# Altium integrated library Linear Technology Power Management Switching Regulator LTC1174-LTC3901.IntLib: 2647 symbols (part 128 of 364)
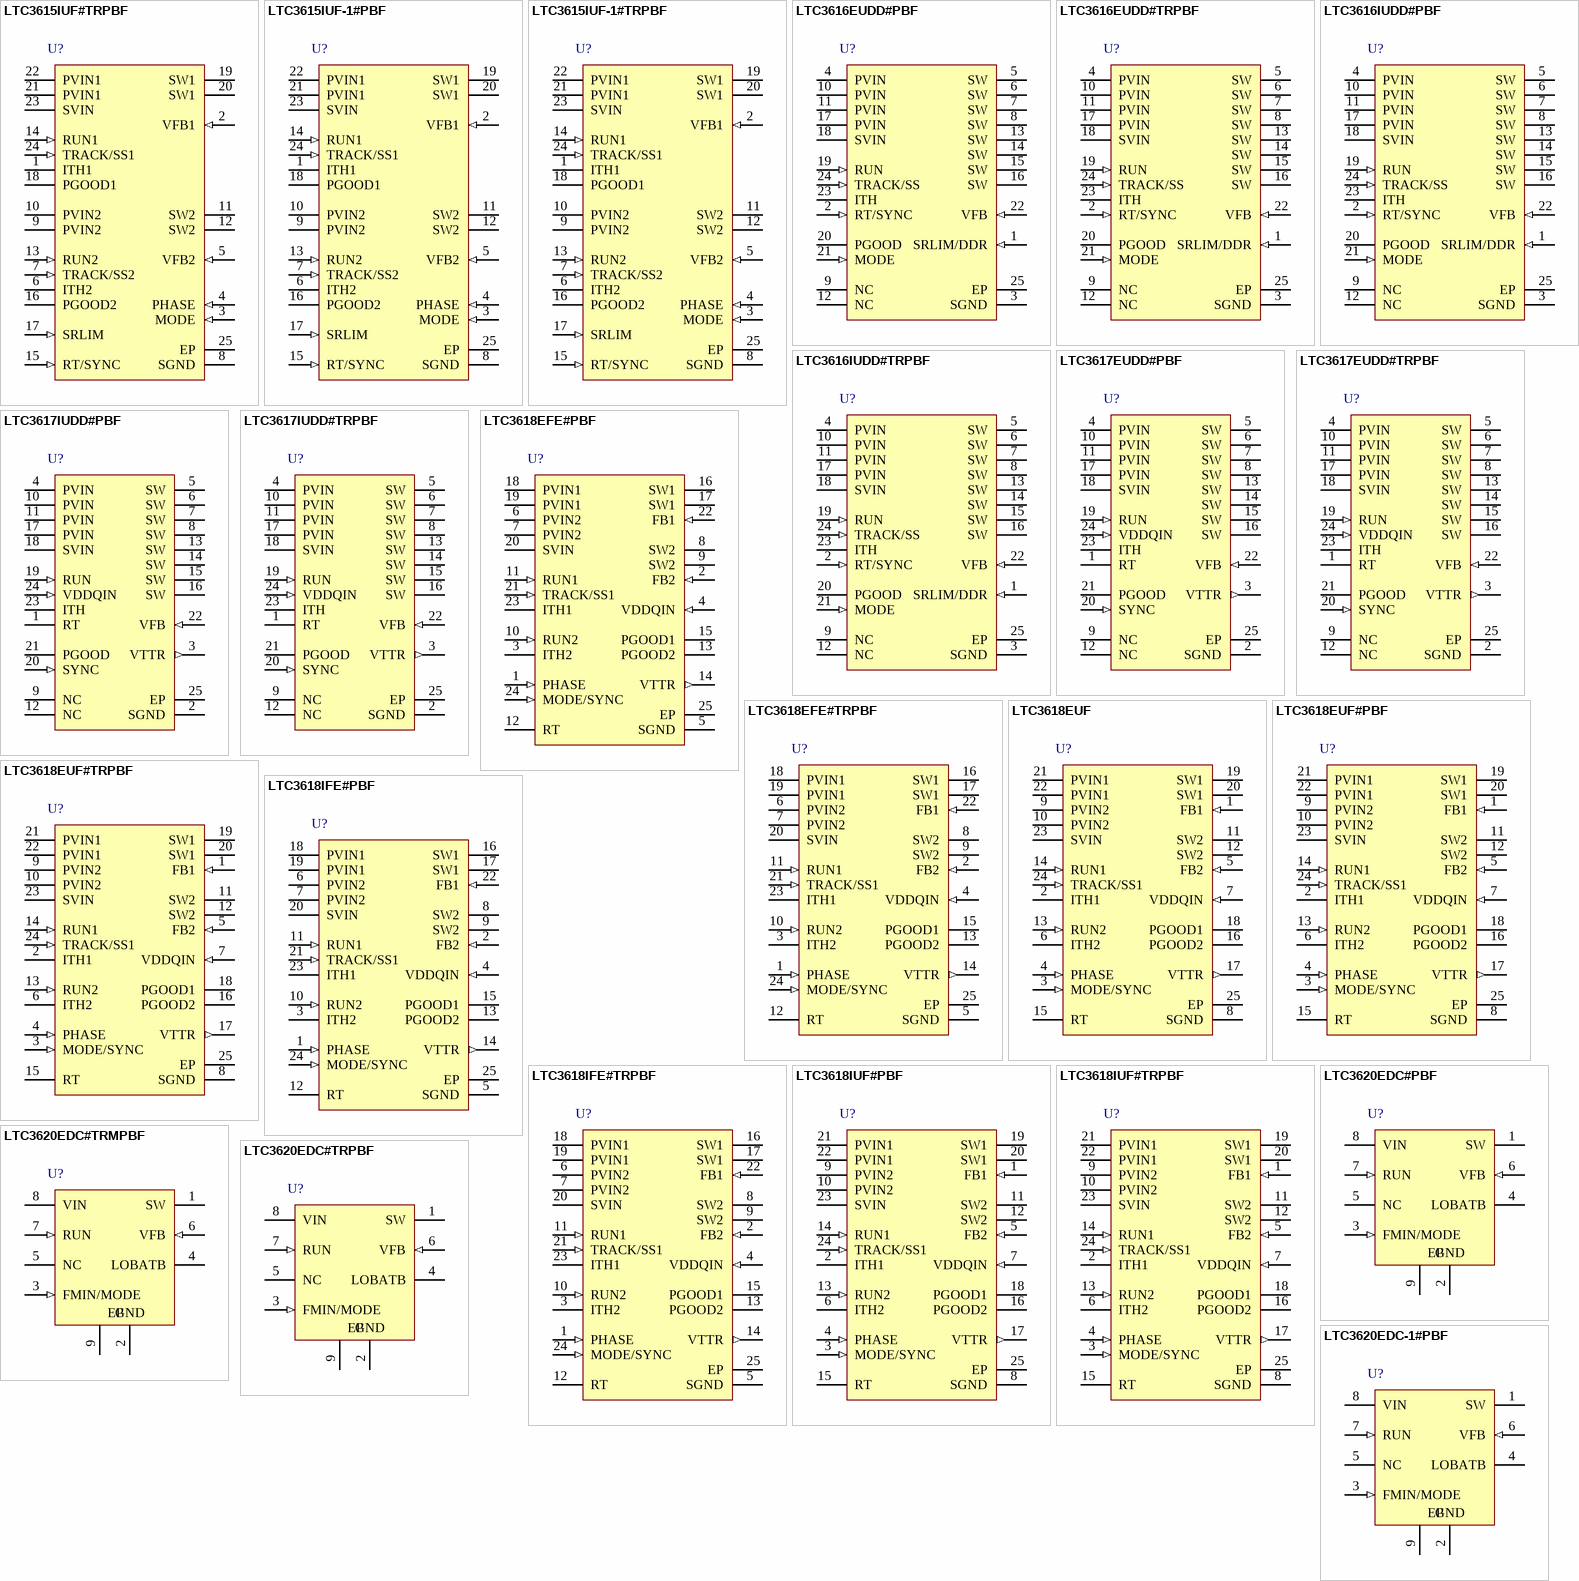
[diagram p280: symbols LTC3615IUF#TRPBF to LTC3620EDC-1#PBF]

## LTC3618EUF
designator U?
Dual 4 MHz, +/-3 A Synchronous Buck Converter for DDR Termination, 24-pin QFN (UF-24), -40 to 125 degC; Manufacturer: Linear Technology; PartNumber: LTC3618EUF; Frequency Adjust Range: Up - 4MHz; Number of Outputs: 3; DatasheetVersion: Rev. B; PackageVersion: Rev. B, 02/2012; PackageReference: UF24; PackageDescription: 24-Pin Plastic QFN, Body 4 x 4 mm, Pitch 0.5 mm; RoHS: FALSE; Mounting Technology: Surface Mount; Code_JEDEC: MO-220; ComponentLink1Description: Manufacturer URL; ComponentLink1URL: http://www.linear.com/; ComponentLink2Description: Datasheet; ComponentLink2URL: http://cds.linear.com/docs/en/datasheet/3618fb.pdf; ComponentLink3Description: Package Specification; ComponentLink3URL: http://cds.linear.com/docs/en/packaging/%28UF24%29%20QFN%2005-08-1697%20Rev%20B.pdf
footprint LT-UF-24_N (QFN, 24-Leads, Body 4.1x4.1mm, Pitch 0.5mm, Thermal Pad 2.45x2.45mm, IPC Medium Density)
footprint LT-UF-24_L (QFN, 24-Leads, Body 4.1x4.1mm, Pitch 0.5mm, Thermal Pad 2.45x2.45mm, IPC High Density)
footprint LT-UF-24_M (QFN, 24-Leads, Body 4.1x4.1mm, Pitch 0.5mm, Thermal Pad 2.45x2.45mm, IPC Low Density)
pins: 1 FB1 (in) "Voltage Feedback Input Pin for VDDQ. Receives the feedback voltage for VDDQ from the external resistive divider across the output.", 2 ITH1 "Error Amplifier Compensation. Connection for external compensation from ITH to SGND. The current comparator’s threshold increases with this control voltage. Tying this pin to SVIN enables internal compensation.", 3 MODE/SYNC (in) "Mode Selection. 1. Tying the MODE pin to SVIN or SGND enables pulseskipping mode or forced continuous mode respectively for VDDQ only. The default operation mode for VTT is forced continuous mode. The input to the MODE/SYNC (See Datasheet)", 4 PHASE (in) "Phase Shift Selection. If pin is tied to SGND, the phase between SW1 and SW2 will be 0degrees. Tying PHASE to SVIN will select 180degrees phase shift. With the PHASE pin tied to half of the SVIN voltage, 90degrees phase (See Datasheet)", 5 FB2 (in) "Voltage Feedback Input Pin for VTT. See VFB1.", 6 ITH2 "Error Amplifier Compensation of VTT. See ITH1.", 7 VDDQIN (in) "External Reference Input. An internal resistor divider to the error amplifier sets the output voltage of VTT. VFB2 will regulate to VDDQIN ?0.5.", 8 SGND (power) "Signal Ground. All small-signal and compensation components should connect to this ground pin which, in turn, should be connected to PGND at one point.", 9 PVIN2 (power) "VTT Power Supply Input. See PVIN1.", 10 PVIN2 (power) "VTT Power Supply Input. See PVIN1.", 11 SW2 (power) "VTT Switch Node. See SW1.", 12 SW2 (power) "VTT Switch Node. See SW1.", 13 RUN2 (in) "Enable Pin for VTT. See RUN1.", 14 RUN1 (in) "Enable Pin for VDDQ. Forcing RUN1 above the input threshold voltage enables the output SW1 of VDDQ. Forcing both RUNx pins to ground shuts down the LTC3618. In shutdown, all functions are disabled and the LTC3618 draws <1uA (See Datasheet)", 15 RT "Oscillator Frequency. This pin provides two modes of setting the switching frequency. 1. Connecting a resistor from RT to ground will set the switching frequency based on the resistor value. 2. Tying this pin to SVIN enables (See Datasheet)", 16 PGOOD2 (oc) "Power Good Output for VTT. See PGOOD1.", 17 VTTR (out) "Voltage Buffer Output. This pin is the output of an internal voltage buffer whose voltage is equal to VDDQIN ?0.5. Output current capability is +/-10mA. Do not exceed 0.1uF capacitance on this pin. This output i(See Datasheet)", 18 PGOOD1 (oc) "Power Good Output Pin for VDDQ. The open-drain output will be pulled down to ground if the FB1 voltage of the channel is not within the power good voltage window. The PGOOD1 will also be pulled down if the channel is not (See Datasheet)", 19 SW1 (power) "VDDQ Switch Node. Connection to the external inductor. This pin connects to the drains of the internal synchronous power MOSFET switches.", 20 SW1 (power) "VDDQ Switch Node. Connection to the external inductor. This pin connects to the drains of the internal synchronous power MOSFET switches.", 21 PVIN1 (power) "VDDQ Power Supply Inputs. These pins connect to the source of the internal power P-channel MOSFET of VDDQ. PVIN1 and PVIN2 are independent of each other. They may connect to equal or lower supplies than SVIN.", 22 PVIN1 (power) "VDDQ Power Supply Inputs. These pins connect to the source of the internal power P-channel MOSFET of VDDQ. PVIN1 and PVIN2 are independent of each other. They may connect to equal or lower supplies than SVIN.", 23 SVIN (power) "Signal Input Supply. This pin powers the internal control circuitry and is monitored by the undervoltage lockout comparator.", 24 TRACK/SS1 (in) "Internal, External Soft-Start, External Reference Input for VDDQ. The type of start-up behavior for VDDQ is programmable with the TRACK/SS1 pin: 1. Internal soft-start with fixed timing can be programmed by tying TRACK/SS1 (See Datasheet)", 25 EP (power) "Power Ground. The exposed pad connects to the sources of the power N-channel MOSFETs. The PGND pin is common for both channels. The exposed pad must be soldered to the PCB for electrical connection and rated thermal (See Datasheet)"